# Altium footprint library MB1419.PcbLib: 49 footprints (part 3 of 4)
Each footprint in its own frame and in the unit in brackets; x right, y up, seen from the top. Pads: shape width x height; smd on the part's side, far side on the other; paste and mask are expansions set on the pad; w line width, h text height; cw(c..) or ccw(c..) is an arc to the next point about the centre after c.
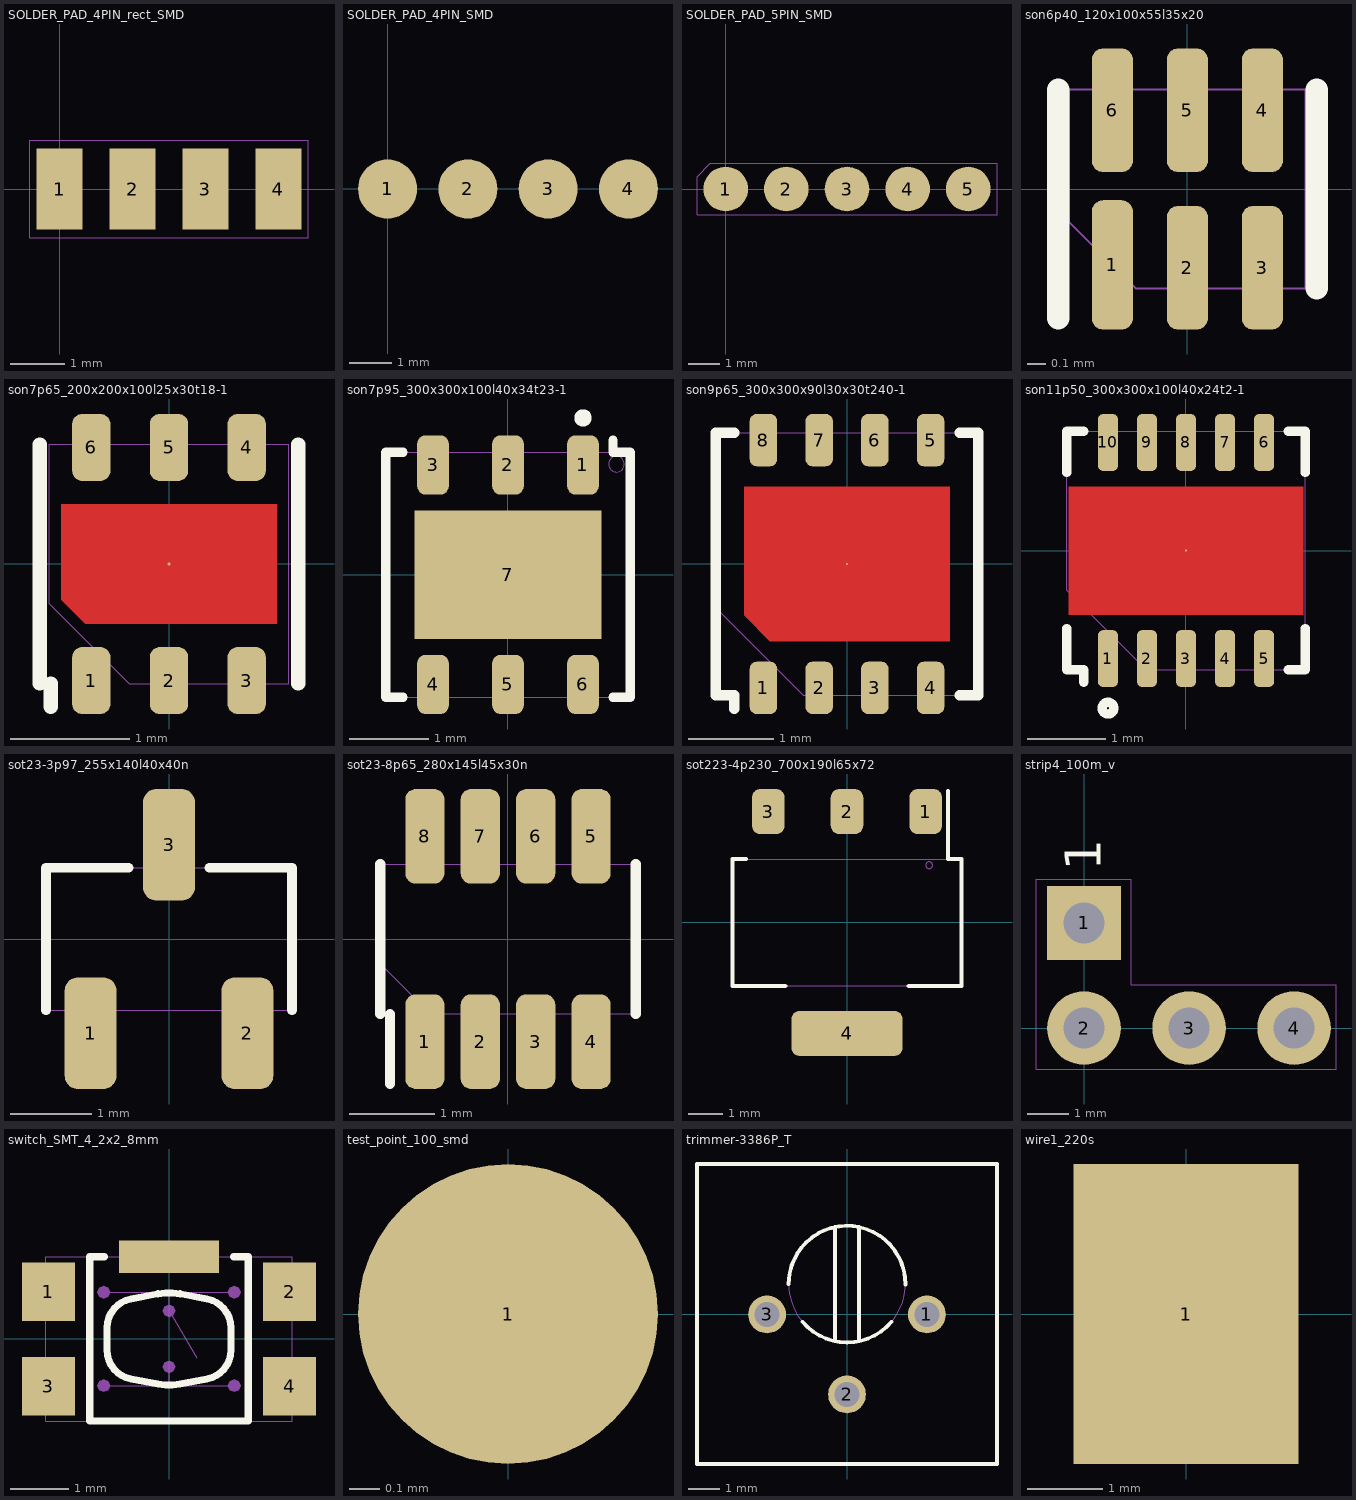
[diagram p2: the footprints below, top view; thin cyan lines are the x and y axes]

## SOLDER_PAD_4PIN_rect_SMD [mm]
pads (4):
  rect 0.85x1.5 smd paste-100 mask+0.05: 1(0,0) 2(1.35,0) 3(2.7,0) 4(4.05,0)
Mechanical 14:
  lines w0.01: -0.55,-0.9 4.6,-0.9 4.6,0.9 -0.55,0.9 -0.55,-0.9
  text "'.Designator'" at 2.575,-0.675 h0.75
  text "4" at 3.85,-0.325 h1
  text "3" at 2.5,-0.325 h1
  text "2" at 1.15,-0.325 h1
  text "1" at -0.1,-0.325 h1

## SOLDER_PAD_4PIN_SMD [mm]
pads (4):
  round 1.4 smd paste-100 mask+0.05: 1(0,0) 2(1.9,0) 3(3.8,0) 4(5.7,0)
Mechanical 14:
  text "'.Designator'" at 2.425,2.435 h0.75
  text "1" at -0.125,-0.325 h1
  text "2" at 1.7,-0.325 h1
  text "3" at 3.625,-0.3 h1
  text "4" at 5.475,-0.325 h1

## SOLDER_PAD_5PIN_SMD [mm]
pads (5):
  round 1.4 smd paste-2.54 mask+0.05: 1(0,0) 2(1.9,0) 3(3.8,0) 4(5.7,0) 5(7.6,0)
Mechanical 14:
  lines w0.01: -0.9,-0.8 -0.9,0.39 -0.49,0.8 8.5,0.8 8.5,-0.8 -0.9,-0.8
  text "'.Designator'" at 6.925,-0.525 h0.75
  text "1" at -0.1,-0.325 h1
  text "2" at 1.675,-0.325 h1
  text "3" at 3.6,-0.3 h1
  text "5" at 7.375,-0.325 h1
  text "4" at 5.45,-0.325 h1

## son6p40_120x100x55l35x20 [mm]
pads (6):
  rrect55% 0.22x0.69 smd mask+0.04: 1(-0.4,-0.405)
  rrect55% 0.22x0.66 smd mask+0.04: 2(0,-0.42) 3(0.4,-0.42) 4(0.4,0.42) 5(0,0.42) 6(-0.4,0.42)
Top Overlay:
  lines w0.12: -0.69,-0.69 -0.69,-0.53 -0.69,0.53 ; 0.69,-0.53 0.69,0.53
Top Solder:
  region: -0.455,0.8 -0.474,0.8 -0.509,0.786 -0.536,0.759 -0.55,0.724 -0.55,0.705 -0.55,0.145 -0.55,0.129 -0.538,0.1 -0.515,0.077 -0.486,0.065 -0.47,0.065 -0.335,0.065 -0.318,0.065 -0.287,0.078 -0.263,0.102 -0.25,0.133 -0.25,0.15 -0.25,0.71 -0.25,0.728 -0.264,0.761 -0.289,0.786 -0.322,0.8 -0.34,0.8
  region: -0.465,-0.035 -0.482,-0.035 -0.513,-0.048 -0.537,-0.072 -0.55,-0.103 -0.55,-0.12 -0.55,-0.7 -0.55,-0.72 -0.535,-0.757 -0.507,-0.785 -0.47,-0.8 -0.45,-0.8 -0.35,-0.8 -0.33,-0.8 -0.293,-0.785 -0.265,-0.757 -0.25,-0.72 -0.25,-0.7 -0.25,-0.12 -0.25,-0.103 -0.263,-0.072 -0.287,-0.048 -0.318,-0.035 -0.335,-0.035
Mechanical 14:
  lines w0.01: -0.63,-0.177 -0.63,0.53 0.63,0.53 0.63,-0.53 -0.277,-0.53 -0.63,-0.177
  text "'.Designator'" at -0.4,-2.05 h0.75
  text "6" at -0.5,0.175 h0.5
  text "1" at -0.475,-0.5 h0.5
  text "4" at 0.275,0.175 h0.5
  text "3" at 0.3,-0.5 h0.5
  text "5" at -0.1,0.175 h0.5
  text "2" at -0.1,-0.5 h0.5
3D body "SON40P120X100X55-6.STEP": height 0.55, standoff 0, extent -0.6,-0.55 0.6,0.55

## son7p65_200x200x100l25x30t18-1 [mm]
pads (7):
  rrect50% 0.32x0.56 smd mask+0.05: 1(-0.65,-0.975) 2(0,-0.975) 3(0.65,-0.975) 4(0.65,0.975) 5(0,0.975) 6(-0.65,0.975)
  oct 0.025x0.025 smd paste-100 mask+0: 7(0,0)
Top Layer:
  region: -0.9,0.5 -0.9,-0.3 -0.7,-0.5 0.9,-0.5 0.9,0.5
Top Overlay:
  lines w0.12: -1.08,-1 -1.08,1 ; -0.99,-1.195 -0.99,-1 ; 1.08,-1 1.08,1
Top Paste:
  rectangle: 0.06,-0.315 0.78,0.315
  rectangle: -0.78,-0.315 -0.06,0.315
Mechanical 14:
  lines w0.01: -1,-0.333 -1,1 1,1 1,-1 -0.333,-1 -1,-0.333
  text "'.Designator'" at 2.05,-0.825 h0.75
  text "3" at 0.5,-0.975 h0.75
  text "7" at -0.15,-0.25 h0.75
  text "4" at 0.475,0.475 h0.75
  text "6" at -0.825,0.475 h0.75
  text "5" at -0.15,0.475 h0.75
  text "2" at -0.15,-0.975 h0.75
  text "1" at -0.775,-0.95 h0.75
3D body "QFN6.STEP": height 0.75, standoff 0, extent -1,-1.001 1,1.001

## son7p95_300x300x100l40x34t23-1 [mm]
pads (7):
  rrect50% 0.4x0.75 smd mask+0.05: 1(0.95,1.39) 2(0,1.39) 3(-0.95,1.39) 4(-0.95,-1.39) 5(0,-1.39) 6(0.95,-1.39)
  rect 2.365x1.625 smd paste-100 mask+0.05: 7(0,0)
Top Overlay:
  circle w0.12: c0.95,1.985 r0.05
  lines w0.12: -1.33,-1.55 -1.55,-1.55 -1.55,1.55 -1.33,1.55 ; 1.33,-1.55 1.55,-1.55 1.55,1.55 1.33,1.55 1.33,1.705
Top Paste:
  rectangle: -0.995,0.095 -0.095,0.625
  rectangle: 0.095,0.095 0.995,0.625
  rectangle: 0.095,-0.625 0.995,-0.095
  rectangle: -0.995,-0.625 -0.095,-0.095
Mechanical 14:
  circle w0.01: c1.375,1.4 r0.1
  lines w0.01: -1.55,-1.55 1.55,-1.55 1.55,1.55 -1.55,1.55 -1.55,-1.55
  text "'.Designator'" at 1.975,-1.45 h0.75
  text "4" at -1.2,-1.5 h1
  text "1" at 0.825,0.875 h1
  text "6" at 0.75,-1.5 h1
  text "7" at -0.2,-0.625 h1
  text "2" at -0.2,0.875 h1
  text "5" at -0.225,-1.5 h1
  text "3" at -1.15,0.875 h1
3D body "SON7P95_300X300X100L40X34T23-1.STEP": height 0.75, standoff -0.05, extent -1.5,-1.55 1.5,1.55

## son9p65_300x300x90l30x30t240-1 [mm]
pads (9):
  rrect50% 0.32x0.61 smd mask+0.05: 1(-0.975,-1.445) 2(-0.325,-1.445) 3(0.325,-1.445) 4(0.975,-1.445) 5(0.975,1.445) 6(0.325,1.445) 7(-0.325,1.445) 8(-0.975,1.445)
  oct 0.025x0.025 smd paste-100 mask+0: 9(0,0)
Top Layer:
  region: -1.2,0.9 -1.2,-0.6 -0.9,-0.9 1.2,-0.9 1.2,0.9
Top Overlay:
  lines w0.12: -1.315,-1.69 -1.315,-1.53 -1.53,-1.53 -1.53,1.53 -1.315,1.53 ; 1.315,-1.53 1.53,-1.53 1.53,1.53 1.315,1.53
Top Paste:
  rectangle: -1,0.1 -0.1,0.7
  rectangle: 0.1,0.1 1,0.7
  rectangle: 0.1,-0.7 1,-0.1
  rectangle: -1,-0.7 -0.1,-0.1
Mechanical 14:
  lines w0.01: -1.53,-0.51 -0.51,-1.53 1.53,-1.53 1.53,1.53 -1.53,1.53 -1.53,-0.51
  text "'.Designator'" at 1.385,2.05 h0.75
  text "3" at 0.125,-1.5 h1
  text "5" at 0.775,0.875 h1
  text "1" at -1.125,-1.475 h1
  text "2" at -0.525,-1.5 h1
  text "6" at 0.125,0.85 h1
  text "7" at -0.525,0.85 h1
  text "9" at -0.225,-0.65 h1
  text "4" at 0.75,-1.5 h1
  text "8" at -1.175,0.85 h1
3D body "SON65P300X300X100-9.STEP": height 1, standoff 0, extent -1.5,-1.55 1.5,1.55

## son11p50_300x300x100l40x24t2-1 [mm]
pads (11):
  rrect54% 0.26x0.73 smd mask+0.05: 1(-1,-1.385) 2(-0.5,-1.385) 3(0,-1.385) 4(0.5,-1.385) 5(1,-1.385) 6(1,1.385) 7(0.5,1.385) 8(0,1.385) 9(-0.5,1.385) 10(-1,1.385)
  oct 0.025x0.025 smd paste-100: 11(0,0)
Top Layer:
  region: 1.5,-0.82 1.5,0.82 -1.5,0.82 -1.5,-0.82
Top Overlay:
  circle w0.12: c-1,-2.02 r0.075
  lines w0.12: -1.53,-1 -1.53,-1.53 -1.31,-1.53 -1.31,-1.69 ; -1.53,1 -1.53,1.53 -1.31,1.53 ; 1.31,-1.53 1.53,-1.53 1.53,-1 ; 1.31,1.53 1.53,1.53 1.53,1
Top Paste:
  rectangle: 0.09,-0.63 0.94,-0.09
  rectangle: 0.09,0.09 0.94,0.63
  rectangle: -0.94,-0.63 -0.09,-0.09
  rectangle: -0.94,0.09 -0.09,0.63
Top Solder:
  rectangle: -1.55,-0.87 1.55,0.87
Mechanical 14:
  lines w0.01: -1.53,-0.51 -0.51,-1.53 1.53,-1.53 1.53,1.53 -1.53,1.53 -1.53,-0.51
  text "'.Designator'" at -2,-0.1 h0.75
  text "5" at 0.8,-1.475 h1
  text "1" at -1.15,-1.475 h1
  text "6" at 0.8,0.825 h1
  text "11" at -0.375,-0.675 h1
  text "10" at -1.425,0.825 h1
3D body "SON50P300X300X100-11.STEP": height 1, standoff 0, extent -1.5,-1.55 1.5,1.55

## sot23-3p97_255x140l40x40n [mm]
pads (3):
  rrect50% 0.64x1.38 smd mask+0.05: 1(-0.97,-1.165) 2(0.97,-1.165) 3(0,1.165)
Top Overlay:
  lines w0.12: -1.52,-0.88 -1.52,0.88 -0.5,0.88 ; 0.5,0.88 1.52,0.88 1.52,-0.88
Mechanical 14:
  lines w0.01: -1.52,-0.88 1.52,-0.88 1.52,0.88 -1.52,0.88 -1.52,-0.88
  text "'.Designator'" at 1.995,0.455 h0.75
  text "3" at -0.225,0.975 h1
  text "1" at -1.1,-1.575 h1
  text "2" at 0.75,-1.575 h1
3D body "SOT95P255X140-3.STEP": height 1.45, standoff 0, extent -1.45,-1.4 1.45,1.4

## sot23-8p65_280x145l45x30n [mm]
pads (8):
  rrect52% 0.46x1.11 smd mask+0.045: 1(-0.975,-1.205) 2(-0.325,-1.205) 3(0.325,-1.205) 4(0.975,-1.205) 5(0.975,1.205) 6(0.325,1.205) 7(-0.325,1.205) 8(-0.975,1.205)
Top Overlay:
  lines w0.12: -1.5,-0.88 -1.5,0.88 ; -1.385,-1.7 -1.385,-0.88 ; 1.5,-0.88 1.5,0.88
Mechanical 14:
  lines w0.01: -1.5,-0.293 -1.5,0.88 1.5,0.88 1.5,-0.88 -0.913,-0.88 -1.5,-0.293
  text "'.Designator'" at 2.1,0.5 h0.75
  text "4" at 0.75,-1.6 h1
  text "1" at -1.1,-1.6 h1
  text "2" at -0.525,-1.6 h1
  text "3" at 0.125,-1.6 h1
  text "5" at 0.775,0.95 h1
  text "6" at 0.1,0.95 h1
  text "7" at -0.525,0.95 h1
  text "8" at -1.175,0.95 h1
3D body "SOT238.STEP": height 1.2, standoff 0, extent -1.47,-1.4 1.47,1.4

## sot223-4p230_700x190l65x72 [mm]
pads (4):
  rrect51% 0.95x1.32 smd mask+0.05: 1(2.3,3.24) 2(0,3.24) 3(-2.3,3.24)
  rrect36% 3.25x1.32 smd mask+0.05: 4(0,-3.24)
Top Overlay:
  lines w0.12: -2.955,1.85 -3.35,1.85 -3.35,-1.85 -1.805,-1.85 ; 1.805,-1.85 3.35,-1.85 3.35,1.85 2.955,1.85 2.955,3.84
Mechanical 14:
  circle w0.01: c2.4,1.675 r0.1
  lines w0.01: -3.35,-1.85 3.35,-1.85 3.35,1.85 -3.35,1.85 -3.35,-1.85
  text "'.Designator'" at 2.05,0.3 h0.75
  text "1" at 2.2,2.9 h1
  text "3" at -2.5,2.9 h1
  text "4" at -0.2,-3.6 h1
  text "2" at -0.2,2.9 h1
3D body "SOT-223.STEP": height 1.66, standoff 0.01, extent -3.25,-3.44 3.25,3.56

## strip4_100m_v [mil]
pads (4):
  rect 70x70 hole 39 mask+3.94: 1(0,100)
  round 70 hole 39 mask+3.94: 2(0,0) 3(100,0) 4(200,0)
Top Overlay:
  text "1" at 27.52,149.84 h59.06
Mechanical 14:
  lines w0.39: -45.67,-39.37 239.76,-39.37 239.76,41.34 44.88,41.34 44.88,141.73 -45.67,141.73 -45.67,-39.37
  text "'.Designator'" at 81.3,-19.69 h29.53
  text "3" at 100,-10 h39.37
  text "4" at 200,-10 h39.37
  text "2" at 0,-10 h39.37
  text "1" at 0,90 h39.37
  text "1" at -31.65,90.2 h39.37

## switch_SMT_4_2x2_8mm [mm]
pads (5):
  rect 0.9x1 smd mask+0.05: 1(-2.056,0.805) 2(2.056,0.805) 3(-2.056,-0.805) 4(2.056,-0.805)
  rect 1.7x0.56 smd mask+0.05: " "(0,1.4)
Top Overlay:
  lines w0.12: -1.1,1.4 -1.35,1.4 -1.35,-1.4 1.35,-1.4 1.35,1.4 1.1,1.4 ; -1.055,-0.191 ccw(c-0.555,-0.191) -0.648,-0.682 -0.186,-0.77 ccw(c0,0.213) 0.186,-0.77 0.648,-0.682 ccw(c0.555,-0.191) 1.055,-0.191 1.055,0.191 ccw(c0.555,0.191) 0.648,0.682 0.186,0.77 ccw(c0,-0.213) -0.186,0.77 -0.648,0.682 ccw(c-0.555,0.191) -1.055,0.191 -1.055,-0.191
Mechanical 14:
  lines w0.01: -1.112,-0.794 1.112,-0.794 ; -1.112,0.794 1.112,0.794 ; 0,-0.794 0,-0.476 ; 0,0.794 0,0.476 0.476,-0.318 ; -2.1,-1.4 2.1,-1.4 2.1,1.4 -2.1,1.4 -2.1,-1.4 ; -1.055,-0.191 ccw(c-0.555,-0.191) -0.648,-0.682 -0.186,-0.77 ccw(c0,0.213) 0.186,-0.77 0.648,-0.682 ccw(c0.555,-0.191) 1.055,-0.191 1.055,0.191 ccw(c0.555,0.191) 0.648,0.682 0.186,0.77 ccw(c0,-0.213) -0.186,0.77 -0.648,0.682 ccw(c-0.555,0.191) -1.055,0.191 -1.055,-0.191
  text "'.Designator'" at -1.935,-2.075 h0.75
  text "4" at 1.6,-1.15 h1
  text "miniswitch-KMR211GLFS" at -2.525,-1.775 h0.5
  text "3" at -2.05,-1.125 h1
  text "2" at 1.625,0.475 h1
  text "1" at -2.05,0.475 h1
Mechanical 16:
  pour cut-out: 1.112,-0.686 1.035,-0.717 1.003,-0.794 1.035,-0.871 1.112,-0.902 1.188,-0.871 1.22,-0.794 1.188,-0.717
  pour cut-out: -1.112,-0.686 -1.188,-0.717 -1.22,-0.794 -1.188,-0.871 -1.112,-0.902 -1.035,-0.871 -1.003,-0.794 -1.035,-0.717
  pour cut-out: 0,-0.368 -0.077,-0.4 -0.108,-0.476 -0.077,-0.553 0,-0.585 0.077,-0.553 0.108,-0.476 0.077,-0.4
  pour cut-out: 1.112,0.902 1.035,0.871 1.003,0.794 1.035,0.717 1.112,0.686 1.188,0.717 1.22,0.794 1.188,0.871
  pour cut-out: 0,0.585 -0.077,0.553 -0.108,0.476 -0.077,0.4 0,0.368 0.077,0.4 0.108,0.476 0.077,0.553
  pour cut-out: -1.112,0.902 -1.188,0.871 -1.22,0.794 -1.188,0.717 -1.112,0.686 -1.035,0.717 -1.003,0.794 -1.035,0.871
3D body "KMR211GLFS.stp": height 1.92, standoff -0.02, extent -2.31,-1.39 2.29,1.41

## test_point_100_smd [mm]
pads (1):
  round 1 smd paste-100 mask+0.05: 1(0,0)
Mechanical 14:
  circle w0.01: c0,0 r0.457
  text "'.Designator'" at 3.175,0.3 h0.75
  text "1" at -0.125,-0.325 h1

## trimmer-3386P_T [mm]
pads (3):
  round 1.2 hole 0.8 mask+0.1: 1(2.54,-0.015) 2(0,-2.555) 3(-2.54,-0.015)
Top Overlay:
  lines w0.12: -1.854,0.949 cw(c0,0.949) -1.82,1.303 cw(c0,0.949) 1.854,0.94 ; -1.416,-0.248 ccw(c0,0.949) 1.416,-0.248 ; -0.381,-0.865 -0.381,-0.575 -0.381,0.568 -0.381,2.473 -0.381,2.764 ; 0.381,-0.865 0.381,-0.575 0.381,0.568 0.381,2.769 ; -4.765,-4.765 4.765,-4.765 4.765,4.765 -4.765,4.765 -4.765,-4.765
Mechanical 14:
  lines w0.01: -0.381,-0.865 -0.381,-0.575 -0.381,0.568 -0.381,2.473 -0.381,2.764 ; 0.381,-0.865 0.381,-0.575 0.381,0.568 0.381,2.473 0.381,2.764 ; -4.765,-4.765 4.765,-4.765 4.765,4.765 -4.765,4.765 -4.765,-4.765 ; -1.854,0.949 cw(c0,0.949) -1.82,1.303 cw(c0,0.949) -1.82,0.595 cw(c0,0.949) -1.854,0.949
  text "'.Designator'" at 2.05,-3.55 h0.75
  text "1" at 2.425,-0.3 h1
  text "10k" at 0.7,4.025 h1
  text "2" at -0.25,-2.875 h1
  text "3" at -2.775,-0.3 h1
3D body "3386-T.stp": height 10.55, standoff -5.93, extent -4.798,-4.849 4.778,4.727

## wire1_220s [mm]
pads (1):
  rect 3x4 smd paste-100 mask+0.05: 1(0,0)
Mechanical 14:
  text "'.Designator'" at -1.975,0.325 h0.75
  text "1" at -0.125,-0.325 h1